# Altium footprint library CAP_1206.PcbLib: 1 footprints
Each footprint in its own frame and in the unit in brackets; x right, y up, seen from the top. Pads: shape width x height; smd on the part's side, far side on the other; paste and mask are expansions set on the pad; w line width, h text height; cw(c..) or ccw(c..) is an arc to the next point about the centre after c.
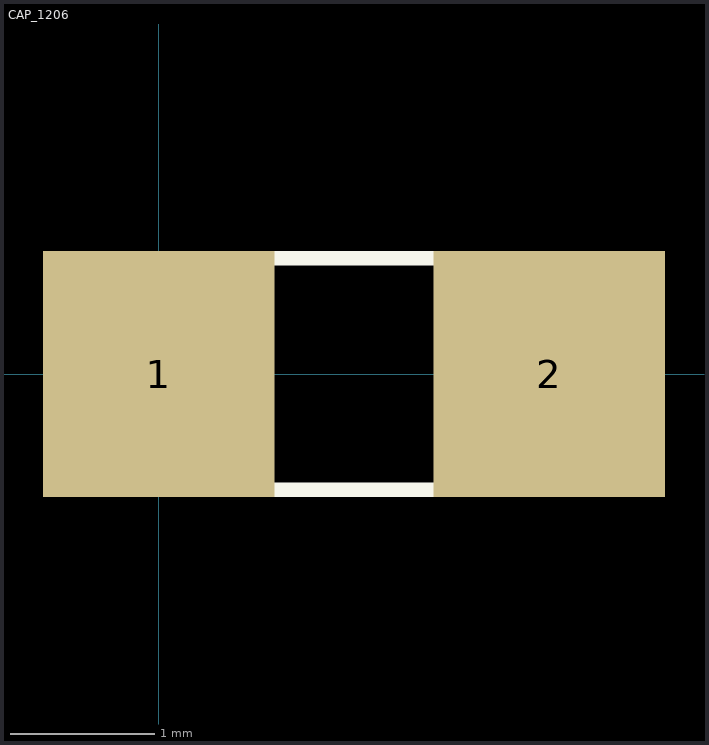
[diagram p0: the footprint, top view; thin cyan lines are the x and y axes]

## CAP_1206 [mm]
pads (2):
  rect 1.6x1.7 smd: 1(0,0) 2(2.7,0)
Top Overlay:
  lines w0.1: -0.7,-0.8 3.4,-0.8 3.4,0.8 -0.7,0.8 -0.7,-0.8